# EAGLE library part ATMEGA32U2 (library MCU)
Atmel ATMEGA32U2 MCU
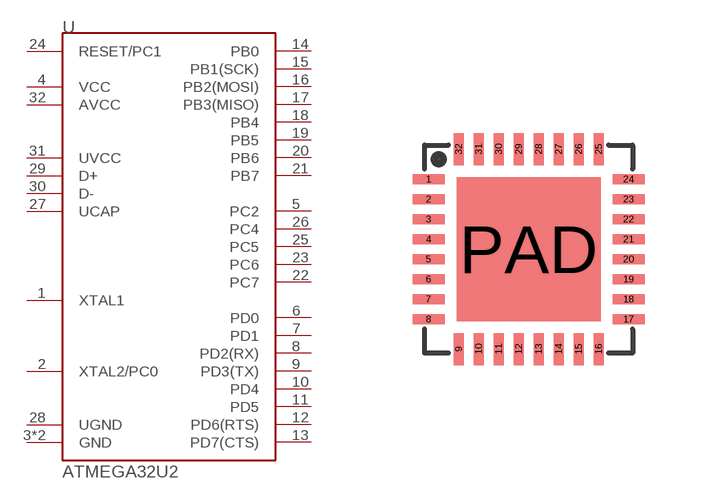
[diagram p0: symbol with the pads of QFN-32; footprint QFN-32]

Designator prefix -

## ATMEGA32U2-QFN-32  [QFN-32]
1  XTAL1
2  XTAL2/PC0
3  GND
4  VCC
5  PC2
6  PD0
7  PD1
8  PD2(RX)
9  PD3(TX)
10  PD4
11  PD5
12  PD6(RTS)
13  PD7(CTS)
14  PB0
15  PB1(SCK)
16  PB2(MOSI)
17  PB3(MISO)
18  PB4
19  PB5
20  PB6
21  PB7
22  PC7
23  PC6
24  RESET/PC1
25  PC5
26  PC4
27  UCAP
28  UGND
29  D+
30  D-
31  UVCC
32  AVCC
PAD  GND

## Footprint QFN-32 (pad centres in mm)
smd 0.8 x 0.25: 1 -2.5,1.75; 2 -2.5,1.25; 3 -2.5,0.75; 4 -2.5,0.25; 5 -2.5,-0.25; 6 -2.5,-0.75; 7 -2.5,-1.25; 8 -2.5,-1.75; 17 2.5,-1.75; 18 2.5,-1.25; 19 2.5,-0.75; 20 2.5,-0.25; 21 2.5,0.25; 22 2.5,0.75; 23 2.5,1.25; 24 2.5,1.75
smd 0.25 x 0.8: 9 -1.75,-2.5; 10 -1.25,-2.5; 11 -0.75,-2.5; 12 -0.25,-2.5; 13 0.25,-2.5; 14 0.75,-2.5; 15 1.25,-2.5; 16 1.75,-2.5; 25 1.75,2.5; 26 1.25,2.5; 27 0.75,2.5; 28 0.25,2.5; 29 -0.25,2.5; 30 -0.75,2.5; 31 -1.25,2.5; 32 -1.75,2.5
smd 3.6 x 3.6: PAD 0,0